# Altium schematic symbol library TGE_Lib.SchLib: 101 symbols
Pins are listed as number, name and electrical type; pins without a type are passive.

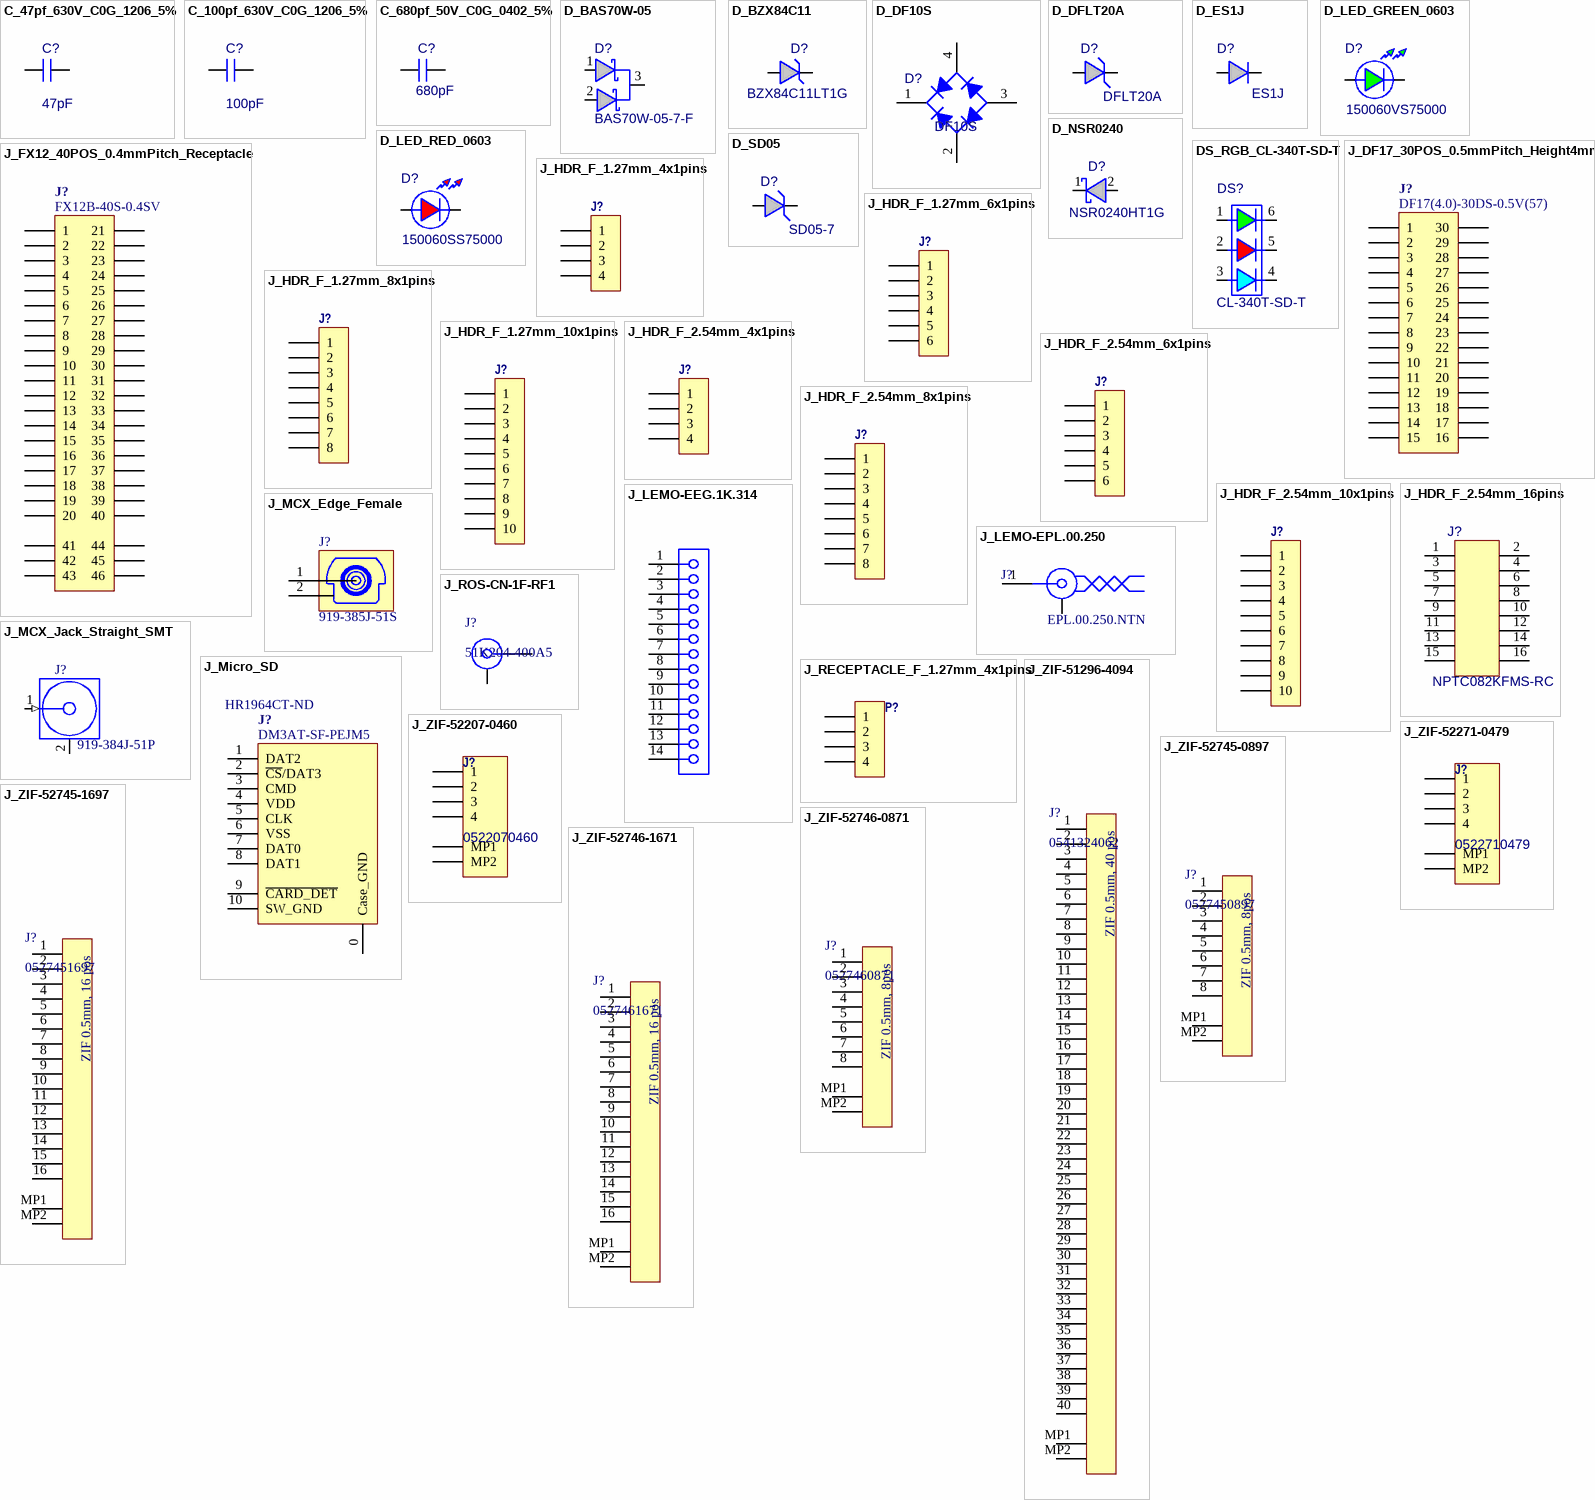
[diagram p0: symbols C_47pf_630V_C0G_1206_5% to J_ZIF-52746-1671]

## C_47pf_630V_C0G_1206_5%
designator C?, comment value 47pF  (hidden comment: CC1206JKNPOZBN470)
Ceramic Capacitor; Manufacturer: Yageo; ManufacturerPartNumber: CC1206JKNPOZBN470; Technology: SMT
signal-integrity model Cap Semi
simulation model CAP
footprint C_3216[1206] (Chip Resistor; Body 3.2 x 1.6 mm (LxW typ))
pins: 1, 2

## C_100pf_630V_C0G_1206_5%
designator C?, comment value 100pF  (hidden comment: C3216C0G2J101J060AA)
Ceramic Capacitor; Manufacturer: TDK Corporation; ManufacturerPartNumber: C3216C0G2J101J060AA; Technology: SMT; Supplier 1: Digi-Key; Supplier Part Number 1: 445-2336-1-ND
signal-integrity model Cap Semi
simulation model CAP
footprint C_3216[1206] (Chip Resistor; Body 3.2 x 1.6 mm (LxW typ))
pins: 1, 2

## C_680pf_50V_C0G_0402_5%
designator C?, comment value 680pF  (hidden comment: C1005NP01H681J050BA)
Ceramic Capacitor; Manufacturer: TDK; ManufacturerPartNumber: C1005NP01H681J050BA; Technology: SMT; Supplier 1: Digi-Key; Supplier Part Number 1: 445-13809-1-ND
signal-integrity model Cap Semi
simulation model CAP
footprint C_1005[0402] (Chip capacitor; Body 1.1 x 0.5 mm (LxW typ))
pins: 1, 2

## D_BAS70W-05
designator D?, comment BAS70W-05-7-F
Schottky Diodes Dual Common Cathode; Manufacturer: Diodes Inc; ManufacturerPartNumber: BAS70W-05-7-F; Value: BAS70W-05; Technology: SMT; Supplier 1: Digi-Key; Supplier Part Number 1: BAS70W-05FDICT-ND
footprint SOT323-3N
pins: 1 A, 2 A, 3 K

## D_BZX84C11
designator D?, comment BZX84C11LT1G
Zener Diode 11V; Manufacturer: On Semicondustor; ManufacturerPartNumber: BZX84C11LT1G; Value: BZX84C11; Technology: SMT; Supplier 1: Digi-Key; Supplier Part Number 1: BZX84C11LT1GOSCT-ND
footprint SOT23-3N(TO-236)
pins: 1 A, 3 K

## D_DF10S
designator D?, comment DF10S
Diodes Rectifier Bridge; Manufacturer: Diodes inc; ManufacturerPartNumber: DF10S; Technology: SMT; Supplier 1: Digi-Key; Supplier Part Number 1: DF10S-TDICT-ND
footprint U_SOIC520P851X650-4N (SOIC 4)
pins: 1 K, 2 C, 3 A, 4 C

## D_DFLT20A
designator D?, comment DFLT20A
ESD Suppressor Unidirectional 20V; Manufacturer: Diodes Inc; ManufacturerPartNumber: DFLT20A; Value: DFLT20A; Technology: SMT; Supplier 1: Digi-Key; Supplier Part Number 1: DFLT20A-7-ND
footprint D_POWERDI_123 (diode)
pins: 1 K, 2 A

## D_ES1J
designator D?, comment ES1J
1.0A 600V Ultra-Fast Rectifier, SMT SMA Package.; Manufacturer: On Semiconductor; ManufacturerPartNumber: ES1J; Technology: SMT; Supplier 1: Digi-Key; Supplier Part Number 1: ES1JFSCT-ND
footprint D_SMA_POL-N(DO-214)
pins: 1 K, 2 A

## D_LED_GREEN_0603
designator D?, comment 150060VS75000
LED Green Clear 40mcd 140deg; Manufacturer: Wurth Electronics Inc; Value: Green; ManufacturerPartNumber: 150060VS75000; Technology: SMT; Supplier 1: Digi-Key; Supplier Part Number 1: 732-4980-1-ND
footprint D_LED_0603_A (Chip LED, 2-Leads, Body 1.6x0.8mm, IPC Medium Density)
pins: 1 K, 2 A

## D_LED_RED_0603
designator D?, comment 150060SS75000
LED Red Clear 60mcd 140deg; Manufacturer: Wurth Electronics Inc; Value: Red; ManufacturerPartNumber: 150060SS75000; Technology: SMT
footprint D_LED_0603_A (Chip LED, 2-Leads, Body 1.6x0.8mm, IPC Medium Density)
pins: 1 K, 2 A

## D_NSR0240
designator D?, comment NSR0240HT1G
DIODE SCHOTTKY 250mA low Vf 40V SOD323; Manufacturer: ON Semiconductor; ManufacturerPartNumber: NSR0240HT1G; Value: NSR0240HT1G; Technology: SMT; Supplier 1: Digi-Key; Supplier Part Number 1: NSR0240HT1GOSCT-ND
footprint D_SOD323N(TBD)
pins: 1 K, 2 A

## D_SD05
designator D?, comment SD05-7
ESD Suppressor Unidirectional 5V; Manufacturer: Diodes Inc; Value: SD05; ManufacturerPartNumber: SD05-7; Technology: SMT; Supplier 1: Digi-Key; Supplier Part Number 1: SD05DICT-ND
footprint D_SOD323N(TBD)
pins: 1 K, 2 A

## DS_RGB_CL-340T-SD-T
designator DS?, comment CL-340T-SD-T
LED RGB 1.70mm L x 1.40mm W top firing; Manufacturer: Citizen; ManufacturerPartNumber: CL-340T-SD-T; Value: RGB; Technology: SMT; Supplier 1: Digi-Key; Supplier Part Number 1: 1642-1508-1-ND
footprint DS_LED_RGB_CL-340T-SD-T (LED RGB top firing CL-340T-SD-T)
pins: 1 A, 2 A, 3 A, 4 K, 5 K, 6 K

## J_DF17_30POS_0.5mmPitch_Height4mm
designator J?, comment DF17(4.0)-30DS-0.5V(57)
Board to Board connector 0.5mm pitch 30 pos; Manufacturer: Hirose; ManufacturerPartNumber: DF17(4.0)-30DS-0.5V(57); Supplier 1: Digi-Key; Supplier Part Number 1: H11115CT-ND; Technology: SMT
footprint J_DF17_30POS_4MM (Board to Board connector 30pos, pitch 0.5mm, height 4mm)
pins: 1, 2, 3, 4, 5, 6, 7, 8, 9, 10, 11, 12, 13, 14, 15, 16, 17, 18, 19, 20, 21, 22, 23, 24, 25, 26, 27, 28, 29, 30

## J_FX12_40POS_0.4mmPitch_Receptacle
designator J?, comment FX12B-40S-0.4SV
Board to Board connector receptacle 0.4mm pitch 40 pos; Manufacturer: Hirose; Supplier 1: Digi-Key; Supplier Part Number 1: H11408CT-ND; ManufacturerPartNumber: FX12B-40S-0.4SV; Technology: SMT
footprint J_FX12_40POS_REC (Board to Board connector 40pos, pitch 0.4mm, height 3mm)
pins: 1, 2, 3, 4, 5, 6, 7, 8, 9, 10, 11, 12, 13, 14, 15, 16, 17, 18, 19, 20, 21, 22, 23, 24, 25, 26, 27, 28, 29, 30, 31, 32, 33, 34, 35, 36, 37, 38, 39, 40, 41, 42, 43, 44, 45, 46

## J_HDR_F_1.27mm_4x1pins
designator J?, comment LPPB041NFFN-RC  (value not drawn)
Header TH Female 1.27mm pitch, 4pins single row; Manufacturer: Sullins Connector Solutions; ManufacturerPartNumber: LPPB041NFFN-RC; Technology: TH; Supplier 1: Digi-Key; Supplier Part Number 1: S9008E-04-ND
footprint J_HDR_TH_50mils_4pos (4pins Single row Header Female 50mils)
pins: 1, 2, 3, 4

## J_HDR_F_1.27mm_6x1pins
designator J?
Header TH Female 1.27mm pitch, 6pins single row; Technology: TH
footprint J_HDR_TH_50mils_6pos (6pins Single row Header Female 50mils)
pins: 1, 2, 3, 4, 5, 6

## J_HDR_F_1.27mm_8x1pins
designator J?
Header TH Female 1.27mm pitch, 8pins single row; Technology: TH
footprint J_HDR_TH_50mils_8pos (8pins Single row Header Female 50mils)
pins: 1, 2, 3, 4, 5, 6, 7, 8

## J_HDR_F_1.27mm_10x1pins
designator J?
Header TH Female 1.27mm pitch, 10pins single row; Technology: TH
footprint J_HDR_TH_50mils_10pos (10pins Single row Header Female 50mils)
pins: 1, 2, 3, 4, 5, 6, 7, 8, 9, 10

## J_HDR_F_2.54mm_4x1pins
designator J?, comment PPTC041LFBN-RC  (value not drawn)
Header TH Female 2.54mm pitch, 4pins single row; Manufacturer: Sullins Connector Solutions; ManufacturerPartNumber: PPTC041LFBN-RC; Technology: TH; Supplier 1: Digi-Key; Supplier Part Number 1: S7002-ND
footprint J_HDR_TH_100mils_4pos (4pins Single row Header Female 100mils)
pins: 1, 2, 3, 4

## J_HDR_F_2.54mm_6x1pins
designator J?, comment PPTC061LFBN-RC  (value not drawn)
Header TH Female 2.54mm pitch, 6pins single row; Manufacturer: Sullins Connector Solutions; ManufacturerPartNumber: PPTC061LFBN-RC; Technology: TH; Supplier 1: Digi-Key; Supplier Part Number 1: S7004-ND
footprint J_HDR_TH_100mils_6pos (6pins Single row Header Female 100mils)
pins: 1, 2, 3, 4, 5, 6

## J_HDR_F_2.54mm_8x1pins
designator J?, comment PPPC081LFBN-RC  (value not drawn)
Header TH Female 2.54mm pitch, 8pins single row; Manufacturer: Sullins Connector Solutions; ManufacturerPartNumber: PPPC081LFBN-RC; Technology: TH; Supplier 1: Digi-Key; Supplier Part Number 1: S7041-ND
footprint J_HDR_TH_100mils_8pos (8pins Single row Header Female 100mils)
pins: 1, 2, 3, 4, 5, 6, 7, 8

## J_HDR_F_2.54mm_10x1pins
designator J?, comment PPPC101LFBN-RC  (value not drawn)
Header TH Female 2.54mm pitch, 10pins single row; Manufacturer: Sullins Connector Solutions; ManufacturerPartNumber: PPPC101LFBN-RC; Technology: TH; Supplier 1: Digi-Key; Supplier Part Number 1: S7043-ND
footprint J_HDR_TH_100mils_10pos (10pins Single row Header Female 100mils)
pins: 1, 2, 3, 4, 5, 6, 7, 8, 9, 10

## J_HDR_F_2.54mm_16pins
designator J?, comment NPTC082KFMS-RC
CONN HEADER FEMALE 16POS .100"; Manufacturer: Sullins Connector Solutions; ManufacturerPartNumber: NPTC082KFMS-RC; Technology: SMT; Supplier 1: Digi-Key; Supplier Part Number 1: S5678-ND
footprint J_HDR_SMT_100mils_16pos (16pins Dual row Header Female 100mils)
pins: 1, 2, 3, 4, 5, 6, 7, 8, 9, 10, 11, 12, 13, 14, 15, 16

## J_LEMO-EEG.1K.314
designator J?, comment EEG.1K.314.CLV ???
CONN Lemo 14pins; Manufacturer: Lemo; ManufacturerPartNumber: EEG.1K.314.CLV ???; Supplier 1: Newark; Technology: TH; Supplier Part Number 1: 77Y7403
footprint J_EEG.1K.314.CLV (Socket, Female, Body 16mm dia. Height 24.3 mm, Through hole)
pins: 1, 2, 3, 4, 5, 6, 7, 8, 9, 10, 11, 12, 13, 14

## J_LEMO-EPL.00.250
designator J?, comment EPL.00.250.NTN
Elbow receptacle for printed circuit,  0 series, Coaxial Type with 1 Coax (50 Ohm); Manufacturer: LEMO; ManufacturerPartNumber: EPL.00.250.NTN; Supplier 1: Digi-Key; Supplier Part Number 1: 1124-1008-ND; Technology: TH
footprint J_EPL.00.250.NTN (Socket, Female, Through hole)
pins: 1, S1, S2, S3, S4

## J_MCX_Edge_Female
designator J?, comment 919-385J-51S
CONN MCX; Manufacturer: Amphenol; ManufacturerPartNumber: 919-385J-51S; Supplier 1: Digi-Key; Supplier Part Number 1: ARF2523-ND
footprint J_MCX_EDGE_FEMALE (MCX Connector Edge Mount Receptacle (female))
pins: 1, 2

## J_MCX_Jack_Straight_SMT
designator J?, comment 919-384J-51P
MCX Straight PCB Jack, Surface Mount, 50 Ohm; Manufacturer: Amphenol RF; ManufacturerPartNumber: 919-384J-51P; Supplier 1: Digi-Key; Supplier Part Number 1: ARF2522-ND; Technology: SMT
footprint J_MCX_JACK_STRAIGHT_SMT (MCX Jack Connector straight SMT)
pins: 1 Signal (in) "Signal Pin", 2 GND (power)

## J_Micro_SD
designator J?, comment DM3AT-SF-PEJM5  Supplier Part Number 1: HR1964CT-ND
Micro SD card socket; Manufacturer: Hirose; ManufacturerPartNumber: DM3AT-SF-PEJM5; Supplier 1: Digi-Key; Technology: SMT
footprint J_MICRO_SD (Micro SD card socket)
pins: 0 Case_GND, 1 DAT2, 2 ~{CS}/DAT3, 3 CMD, 4 VDD, 5 CLK, 6 VSS, 7 DAT0, 8 DAT1, 9 ~{CARD_DET}, 10 SW_GND

## J_RECEPTACLE_F_1.27mm_4x1pins
designator P?, comment LPPB041NFFN-RC  (value not drawn)
Receptacle TH Female 1.27mm pitch, 4pins single row; Manufacturer: Sullins Connector Solutions; ManufacturerPartNumber: LPPB041NFFN-RC; Technology: TH; Supplier 1: Digi-Key; Supplier Part Number 1: S9008E-04-ND
footprint J_HDR_TH_50mils_4pos (4pins Single row Header Female 50mils)
pins: 1, 2, 3, 4

## J_ROS-CN-1F-RF1
designator J?, comment 51K204-400A5
CONN BNC; Manufacturer: Rosenberger; ManufacturerPartNumber: 51K204-400A5; Technology: TH
footprint J_ROS-51K204-400A5_V (BNC 50R Right Angle Jack, 12.5x32.6x14.5mm, Rosenberger Recommended)
pins: 1, MH

## J_ZIF-51296-4094
designator J?, comment 0541324062  value ZIF 0.5mm, 40 pos
FFC/FPC Connector, Zif 0.5mm pitch, 40 pos, bottom contact, flip lock; Manufacturer: Molex; ManufacturerPartNumber: 0541324062; Supplier 1: Digi-Key; Supplier Part Number 1: WM3436CT-ND; Technology: SMT
footprint J_ZIF-54132-4062 (FPC Connector, 40-Leads, Right Angle, Pitch 0.5 mm, Mated Height 2.0 mm, SMT)
pins: 1, 2, 3, 4, 5, 6, 7, 8, 9, 10, 11, 12, 13, 14, 15, 16, 17, 18, 19, 20, 21, 22, 23, 24, 25, 26, 27, 28, 29, 30, 31, 32, 33, 34, 35, 36, 37, 38, 39, 40, MP1, MP2

## J_ZIF-52207-0460
designator J?, comment 0522070460
FFC/FPC Connector, Zif 1mm pitch, 4 pos, top contact, slide lock; Manufacturer: Molex; ManufacturerPartNumber: 0522070460; Technology: SMT; Supplier 1: Digi-Key; Supplier Part Number 1: WM3749CT-ND
footprint J_ZIF-52207-0460 (FPC Connector, 4-Leads, Right Angle, Pitch 1.0 mm, Mated Height 2.7 mm, SMT)
pins: 1, 2, 3, 4, MP1, MP2

## J_ZIF-52271-0479
designator J?, comment 0522710479
FFC/FPC Connector, Zif 1mm pitch, 4 pos, bottom contact, slide lock; Manufacturer: Molex; ManufacturerPartNumber: 0522710479; Technology: SMT; Supplier 1: Digi-Key; Supplier Part Number 1: WM7954CT-ND
footprint J_ZIF-52271-0479 (FPC Connector, 4-Leads, Right Angle, Pitch 1.0 mm, Mated Height 3.0 mm, SMT)
pins: 1, 2, 3, 4, MP1, MP2

## J_ZIF-52745-0897
designator J?, comment 0527450897  value ZIF 0.5mm, 8pos
FFC/FPC Connector, Zif 0.5mm pitch, 8 pos, top contact, slide lock; Manufacturer: Molex; ManufacturerPartNumber: 0527450897; Supplier 1: Digi-Key; Supplier Part Number 1: WM3772CT-ND; Technology: SMT
footprint J_ZIF-52745-0897 (FPC Connector, 8-Leads, Right Angle, Pitch 0.5 mm, Mated Height 2.0 mm, SMT)
pins: 1, 2, 3, 4, 5, 6, 7, 8, MP1, MP2

## J_ZIF-52745-1697
designator J?, comment 0527451697  value ZIF 0.5mm, 16 pos
FFC/FPC Connector, Zif 0.5mm pitch, 16 pos, top contact, slide lock; Manufacturer: Molex; ManufacturerPartNumber: 0527451697; Supplier 1: Digi-Key; Supplier Part Number 1: WM8937CT-ND; Technology: SMT
footprint J_ZIF-52745-1697 (FPC Connector, 16-Leads, Right Angle, Pitch 0.5 mm, Mated Height 2.0 mm, SMT)
pins: 1, 2, 3, 4, 5, 6, 7, 8, 9, 10, 11, 12, 13, 14, 15, 16, MP1, MP2

## J_ZIF-52746-0871
designator J?, comment 0527460871  value ZIF 0.5mm, 8pos
FFC/FPC Connector, Zif 0.5mm pitch, 8 pos, bottom contact, slide lock; Manufacturer: Molex; ManufacturerPartNumber: 0527460871; Supplier 1: Digi-Key; Supplier Part Number 1: WM6769CT-ND; Technology: SMT
footprint J_ZIF-52746-0871 (FPC Connector, 8-Leads, Right Angle, Pitch 0.5 mm, Mated Height 2.0 mm, SMT)
pins: 1, 2, 3, 4, 5, 6, 7, 8, MP1, MP2

## J_ZIF-52746-1671
designator J?, comment 0527461671  value ZIF 0.5mm, 16 pos
FFC/FPC Connector, Zif 0.5mm pitch, 16 pos, bottom contact, slide lock; Manufacturer: Molex; ManufacturerPartNumber: 0527461671; Supplier 1: Digi-Key; Supplier Part Number 1: WM6772CT-ND; Technology: SMT
footprint J_ZIF-52746-1671 (FPC Connector, 16-Leads, Right Angle, Pitch 0.5 mm, Mated Height 2.0 mm, SMT)
pins: 1, 2, 3, 4, 5, 6, 7, 8, 9, 10, 11, 12, 13, 14, 15, 16, MP1, MP2

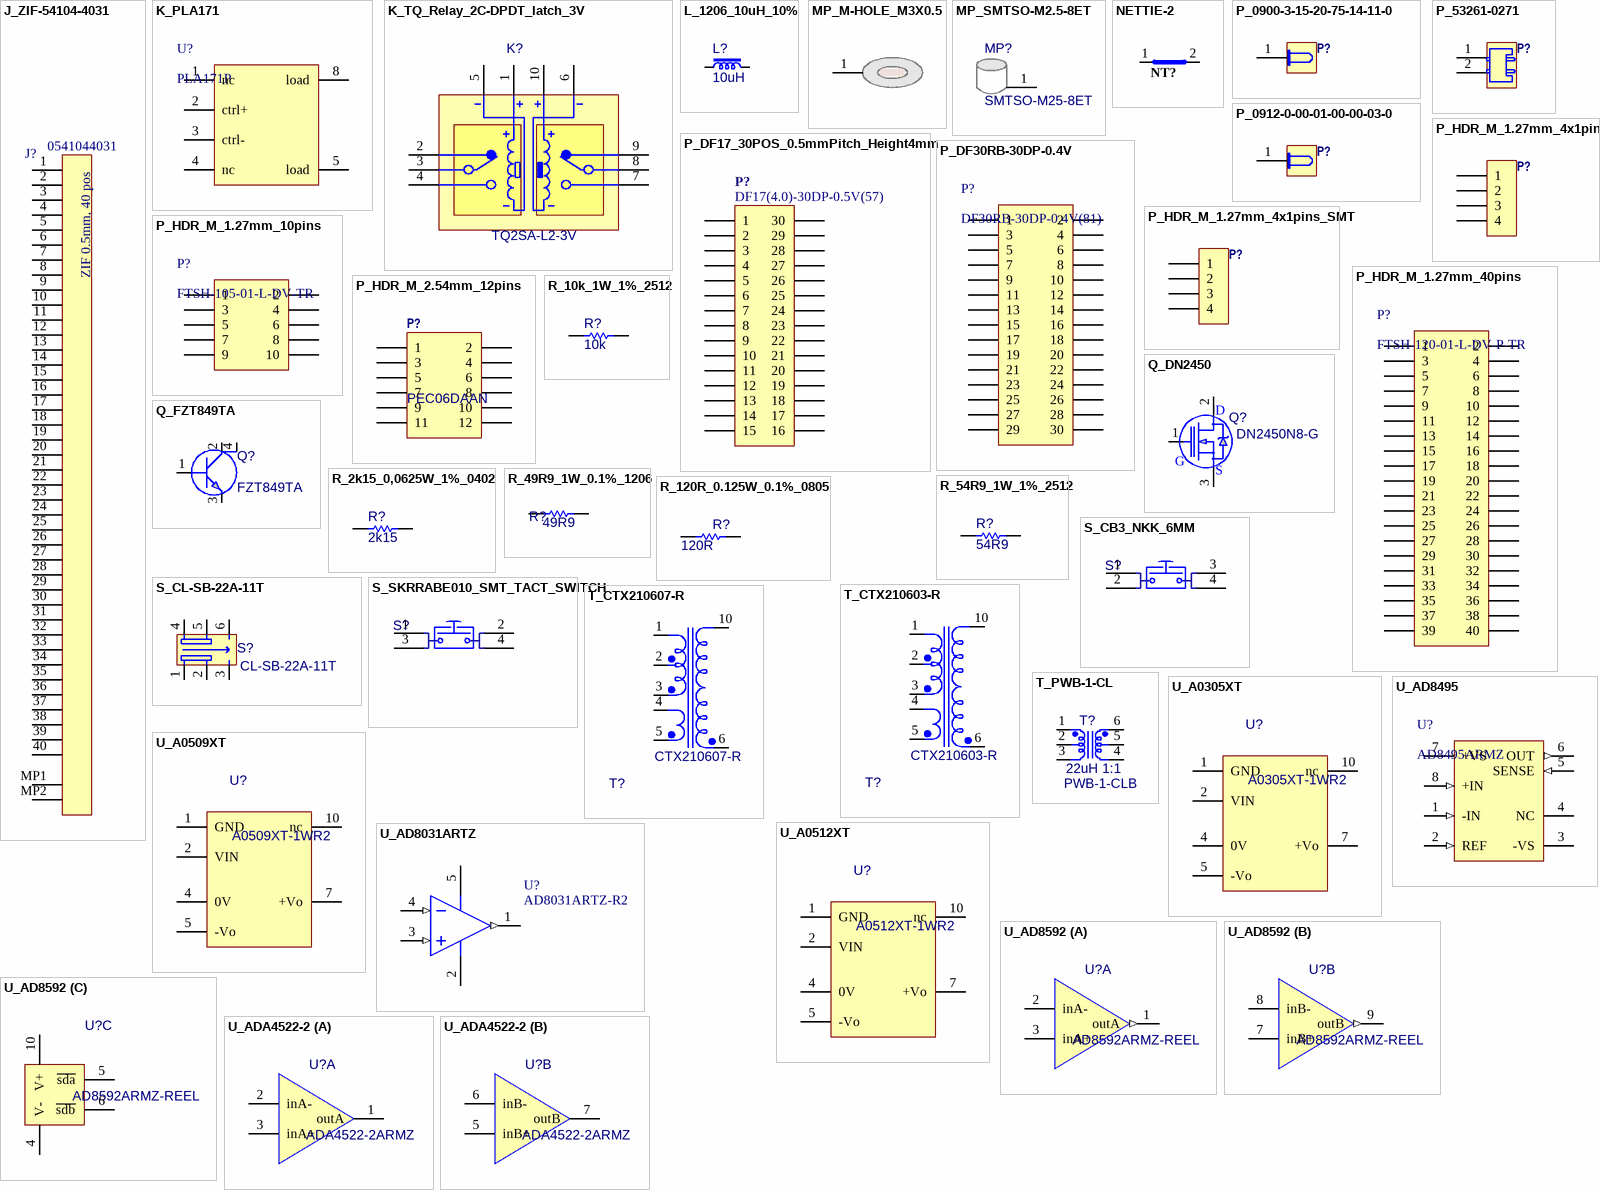
[diagram p1: symbols J_ZIF-54104-4031 to U_ADA4522-2]

## J_ZIF-54104-4031
designator J?, comment 0541044031  value ZIF 0.5mm, 40 pos
FFC/FPC Connector, Zif 0.5mm pitch, 40 pos, top contact, slide lock; Manufacturer: Molex; ManufacturerPartNumber: 0541044031; Supplier 1: Digi-Key; Supplier Part Number 1: WM3431CT-ND; Technology: SMT
footprint J_ZIF-54104-4031 (FPC Connector, 40-Leads, Right Angle, Pitch 0.5 mm, Mated Height 2.0 mm, SMT)
pins: 1, 2, 3, 4, 5, 6, 7, 8, 9, 10, 11, 12, 13, 14, 15, 16, 17, 18, 19, 20, 21, 22, 23, 24, 25, 26, 27, 28, 29, 30, 31, 32, 33, 34, 35, 36, 37, 38, 39, 40, MP1, MP2

## K_PLA171
designator U?, comment PLA171P
Relay optoMOS single pole normally open; Manufacturer: IXYS; ManufacturerPartNumber: PLA171P; Supplier 1: Digi-Key; Supplier Part Number 1: CLA372-ND; Technology: SMT
footprint K_PLA171_8PIN-BODY
pins: 1 nc, 2 ctrl+, 3 ctrl-, 4 nc, 5 load, 8 load

## K_TQ_Relay_2C-DPDT_latch_3V
designator K?, comment TQ2SA-L2-3V
SMT RELAY 2 Form-C, LATCH DUAL COIL 3V; Manufacturer: Panasonic; Value: TQ2SA-L2-3V; Technology: SMT; Supplier 1: Digi-Key; Supplier Part Number 1: 255-2267-5-ND; ManufacturerPartNumber: TQ2SA-L2-3V
footprint K_Small_Relay_2c_type (SMT Small Relay)
footprint K_Small_Relay_2c_type - reverse trought PCB (SMT Small Relay)
footprint K_Small_Relay_2c_type_ARA (SMT Small Relay w/ Shield, ARA series Panasonic)
pins: 1, 2, 3, 4, 5, 6, 7, 8, 9, 10

## L_1206_10uH_10%
designator L?, comment value 10uH  (hidden comment: AIML-1206-100K-T)
Wirewound ferrite chip Inductor 1206; Manufacturer: Abracon; ManufacturerPartNumber: AIML-1206-100K-T; Technology: SMT; Supplier 1: Digi-Key; Supplier Part Number 1: 535-11657-1-ND
footprint L_1206N
pins: 1, 2

## MP_M-HOLE_M3X0.5
designator MP?  (no BOM)
Mounting Hole M3X0.5
footprint MP_M-Hole_M3x0.5mm_NORMAL-FIT (Monting Hole M3x0.5mm Normal Fit)
footprint MP_M-Hole_M3x0.5mm_LOOSE-FIT (Monting Hole M3x0.5mm Loose Fit)
footprint MP_M-Hole_M3x0.5mm_TIGHT-FIT (Monting Hole M3x0.5mm TIGHT Fit)
pins: 1

## MP_SMTSO-M2.5-8ET
designator MP?, comment SMTSO-M25-8ET
PEMNUT Standoff M2.5, 8mm SMT; Manufacturer: PennEngineering; ManufacturerPartNumber: SMTSO-M25-8ET; Technology: SMT
footprint MP_Standoff_M2.5x8mm_SMT (Spacer SMT 8mm M2.5)
pins: 1 (power)

## NETTIE-2
designator NT?  (net tie, no BOM)
footprint NETTIE-SMT2-W0.2L0.6(MM) (Net-Tie, Surface Mount, 0.6 mm x 0.2 mm, 2 Pads (0.4 mm x 0.2 mm))
footprint NETTIE-SMT2-W0.8L2.0(MM) (Net-Tie, Surface Mount, 2.0mm x 0.8mm, 2 Pads(1.2mm x 0.8mm))
footprint NETTIE-SMT2-W0.8L3.3(MM) (Net-Tie, Surface Mount, 3.3mm x 0.8mm, 2 Pads (2.0 mm x 0.8 mm))
pins: 1 Net1, 2 Net2

## P_0900-3-15-20-75-14-11-0
designator P?, comment 0900-3-15-20-75-14-11-0  (value not drawn)
SMT PCB spring pin 5.51mm; Manufacturer: Mill-Max; ManufacturerPartNumber: 0900-3-15-20-75-14-11-0; Technology: SMT; Supplier 1: Digi-Key; Supplier Part Number 1: ED9003-ND
footprint P_0900-3_SMT_SPRING_PIN (Spring Loaded pin, serie 0900-3)
pins: 1

## P_0912-0-00-01-00-00-03-0
designator P?, comment 0912-0-00-01-00-00-03-0  (value not drawn)
press-Fit PCB pin; Manufacturer: Mill-Max; ManufacturerPartNumber: 0912-0-00-01-00-00-03-0; Technology: SMT; Supplier 1: Digi-Key; Supplier Part Number 1: 0912-000010000030-ND
footprint P_0912_PRESS-FIT_PCB_PIN (Press-fit PCB pin serie 0912: 0912-0-00-01-00-00-03-0)
pins: 1

## P_53261-0271
designator P?, comment 0532610271  (value not drawn)
CONN HEADER 2POS 1.25MM R/A SMD; Manufacturer: Molex; ManufacturerPartNumber: 0532610271; Technology: SMT; Supplier 1: Digi-Key; Supplier Part Number 1: WM7620CT-ND
footprint P_53261-0271 (Molex - CONN HEADER 2POS 1.25MM R/A SMD)
pins: 1, 2

## P_DF17_30POS_0.5mmPitch_Height4mm
designator P?, comment DF17(4.0)-30DP-0.5V(57)
Board to Board connector 0.5mm pitch 30 pos; Manufacturer: Hirose; ManufacturerPartNumber: DF17(4.0)-30DP-0.5V(57); Supplier 1: Digi-Key; Supplier Part Number 1: H11143CT-ND; Technology: SMT
footprint P_DF17_30POS_4MM (Board to Board connector 30pos, pitch 0.5mm, height 4mm)
pins: 1, 2, 3, 4, 5, 6, 7, 8, 9, 10, 11, 12, 13, 14, 15, 16, 17, 18, 19, 20, 21, 22, 23, 24, 25, 26, 27, 28, 29, 30

## P_DF30RB-30DP-0.4V
designator P?, comment DF30RB-30DP-0.4V(81)
CONN HEADER 30POS 0.4MM SMD GOLD; Manufacturer: Hirose; ManufacturerPartNumber: DF30RB-30DP-0.4V(81); Technology: SMT; Supplier 1: Avnet; Supplier Part Number 1: DF30FC-30DS-0.4V(82)
footprint P_DF30_30POS (Board to Board connector 30pos, pitch 0.4mm, height 0.8mm)
pins: 1, 2, 3, 4, 5, 6, 7, 8, 9, 10, 11, 12, 13, 14, 15, 16, 17, 18, 19, 20, 21, 22, 23, 24, 25, 26, 27, 28, 29, 30

## P_HDR_M_1.27mm_4x1pins
designator P?, comment GRPB041VWVN-RC  (value not drawn)
Header TH Male 1.27mm pitch, 4pins single row; Manufacturer: Sullins Connector Solutions; ManufacturerPartNumber: GRPB041VWVN-RC; Technology: TH; Supplier 1: Digi-Key; Supplier Part Number 1: S9014E-04-ND
footprint P_HDR_TH_50mils_4pos (4pins Single row Header Male 50mils)
pins: 1, 2, 3, 4

## P_HDR_M_1.27mm_4x1pins_SMT
designator P?, comment GRPB041VWTC-RC  (value not drawn)
Header SMT Male 1.27mm pitch, 4pins single row; Manufacturer: Sullins Connector Solutions; ManufacturerPartNumber: GRPB041VWTC-RC; Technology: SMT; Supplier 1: Digi-Key; Supplier Part Number 1: S9011E-04-ND
footprint P_HDR_SMT_50mils_4pos (4pins Single row Header Male 50mils SMT)
pins: 1, 2, 3, 4

## P_HDR_M_1.27mm_10pins
designator P?, comment FTSH-105-01-L-DV-TR
Header SMT Male 1.27mm pitch, 10pins; Manufacturer: Samtec; ManufacturerPartNumber: FTSH-105-01-L-DV-TR; Technology: SMT; Supplier 1: Digi-Key; Supplier Part Number 1: FTSH-105-01-L-DV-TR-ND
footprint P_HDR_SMT_50mils_10pos (10pins Dual row Header Male 50mils)
pins: 1, 2, 3, 4, 5, 6, 7, 8, 9, 10

## P_HDR_M_1.27mm_40pins
designator P?, comment FTSH-120-01-L-DV-P-TR
Header SMT Male 1.27mm pitch, 40pins; Manufacturer: Samtec; ManufacturerPartNumber: FTSH-120-01-L-DV-P-TR; Technology: SMT; Supplier 1: Digi-Key; Supplier Part Number 1: FTSH-120-01-L-DV-P-TR-ND
footprint P_HDR_SMT_50mils_40pos (40pins Dual row Header Male 50mils)
pins: 1, 2, 3, 4, 5, 6, 7, 8, 9, 10, 11, 12, 13, 14, 15, 16, 17, 18, 19, 20, 21, 22, 23, 24, 25, 26, 27, 28, 29, 30, 31, 32, 33, 34, 35, 36, 37, 38, 39, 40

## P_HDR_M_2.54mm_12pins
designator P?, comment PEC06DAAN
Header TH Male 2.54mm pitch, 12pins Dual row straight; Manufacturer: Sullins; ManufacturerPartNumber: PEC06DAAN; Technology: SMT; Supplier 1: Digi-Key; Supplier Part Number 1: S2012E-06-ND
footprint P_HDR_TH_100mils_12pos_DUALROW (12pins Dual row Header 100mils)
pins: 1, 2, 3, 4, 5, 6, 7, 8, 9, 10, 11, 12

## Q_DN2450
designator Q?, comment DN2450N8-G
FET N-Channel Depletion Mode 500V; Manufacturer: Microchip; Value: DN2450; ManufacturerPartNumber: DN2450N8-G; Technology: SMT; Supplier 1: Digi-Key; Supplier Part Number 1: DN2450K4-GCT-ND
footprint SOT89N (SOT89, 3-Leads, Body 4.5x2.4 mm, Pitch 1.5mm, Lead Span 4.1mm, IPC Medium Density)
pins: 1 G, 2 D, 3 S

## Q_FZT849TA
designator Q?, comment FZT849TA
NPN SOT-223 80V 1A Transistor; Manufacturer: Diodes Inc; ManufacturerPartNumber: FZT849TA; Value: FZT849TA; Technology: SMT; Supplier 1: Digi-Key; Supplier Part Number 1: FZT849CT-ND
footprint SOT223-4N(TO-261AA)
pins: 1 B, 2 C, 3 E, 4 C

## R_2k15_0,0625W_1%_0402
designator R?, comment value 2k15  (hidden comment: RC0402FR-072K15L)
Chip Resistor; Manufacturer: Yageo; ManufacturerPartNumber: RC0402FR-072K15L; Technology: SMT
simulation model RES (Semiconductor Resistor)
signal-integrity model Res Semi
footprint R_1005[0402]
pins: 1, 2

## R_10k_1W_1%_2512
designator R?, comment value 10k  (hidden comment: CRGP2512F10K)
Chip Resistor; Manufacturer: TE Connectivity; ManufacturerPartNumber: CRGP2512F10K; Technology: SMT; Supplier 1: Digi-Key; Supplier Part Number 1: A130733CT-ND
simulation model RES (Semiconductor Resistor)
signal-integrity model Res Semi
footprint R_6332[2512] (Chip Resistor, Body 6.3x3.2mm, IPC Medium Density)
pins: 1, 2

## R_49R9_1W_0.1%_1206
designator R?, comment value 49R9  (hidden comment: PHP01206E49R9BST5)
Chip Resistor; Manufacturer: Vishay-Dale; ManufacturerPartNumber: PHP01206E49R9BST5; Technology: SMT; Supplier 1: Digi-Key; Supplier Part Number 1: PHP49.9ACT-ND
simulation model RES (Semiconductor Resistor)
signal-integrity model Res Semi
footprint R_3216[1206] (Chip Resistor, Body 3.2x1.6mm, IPC Medium Density)
pins: 1, 2

## R_54R9_1W_1%_2512
designator R?, comment value 54R9  (hidden comment: CRCW251254R9FKEG)
Chip Resistor; Manufacturer: Vishay Dale; ManufacturerPartNumber: CRCW251254R9FKEG; Technology: SMT; Supplier 1: Digi-Key; Supplier Part Number 1: 541-54.9AFCT-ND
simulation model RES (Semiconductor Resistor)
signal-integrity model Res Semi
footprint R_6332[2512] (Chip Resistor, Body 6.3x3.2mm, IPC Medium Density)
pins: 1, 2

## R_120R_0.125W_0.1%_0805
designator R?, comment value 120R  (hidden comment: ERA-6AEB121V)
Chip Resistor; Manufacturer: Panasonic; ManufacturerPartNumber: ERA-6AEB121V; Technology: SMT; Supplier 1: Digi-Key; Supplier Part Number 1: P100DACT-ND
simulation model RES (Semiconductor Resistor)
signal-integrity model Res Semi
footprint R_2012[0805] (Chip Resistor, Body 2.0x1.3mm, IPC Medium Density)
pins: 1, 2

## S_CB3_NKK_6MM
designator S?, comment CB315FP-R  (value not drawn)
push button sealed 6mm; Manufacturer: NKK; Value: SPST; ManufacturerPartNumber: CB315FP-R; Technology: SMT; Supplier 1: Digi-Key; Supplier Part Number 1: 360-2778-ND
footprint S_CB3 (Tactile switch smt 6mm)
pins: 1, 2, 3, 4

## S_CL-SB-22A-11T
designator S?, comment CL-SB-22A-11T
Switch slide DPDT right angle; Manufacturer: Copal Electronics; ManufacturerPartNumber: CL-SB-22A-11T; Technology: SMT; Supplier 1: Digi-Key; Supplier Part Number 1: 563-1340-1-ND
footprint S_SCL-SB-22A (Toggle switch DPDT)
pins: 1, 2, 3, 4, 5, 6

## S_SKRRABE010_SMT_TACT_SWITCH
designator S?, comment SKRRABE010  (value not drawn)
push button sealed 6mm; Manufacturer: ALPS; Value: SPST; ManufacturerPartNumber: SKRRABE010; Technology: SMT; Supplier 1: Mouser; Supplier Part Number 1: 688-SKRRAB
footprint S_SKRRA (Tactile switch smt 7.5x7x0.6mm)
pins: 1, 2, 3, 4

## T_CTX210603-R
designator T?, comment CTX210603-R
Transformer 6W; Manufacturer: Cooper Bussmann; ManufacturerPartNumber: CTX210603-R; Technology: SMT; Supplier 1: Newark; Supplier Part Number 1: 76T4686
footprint T_CTX_6W (TRANSFORMER 6W VERSION, LAYOUT C)
pins: 1 P1, 2 Pct, 3 P2, 4 P3, 5 P4, 6 S2-1, 10 S1-1

## T_CTX210607-R
designator T?, comment CTX210607-R
Transformer 6W; Manufacturer: Cooper Bussmann; ManufacturerPartNumber: CTX210607-R; Technology: SMT; Supplier 1: Newark; Supplier Part Number 1: 76T4687
footprint T_CTX_6W (TRANSFORMER 6W VERSION, LAYOUT C)
pins: 1 P1, 2 Pct, 3 P2, 4 P3, 5 P4, 6 S2-1, 10 S1-1

## T_PWB-1-CL
designator T?, comment PWB-1-CLB  value 22uH 1:1
SMT Wideband 1:1 RF Transformer; Manufacturer: Coilcraft; ManufacturerPartNumber: PWB-1-CLB; Technology: SMT; Supplier 1: Mouser; Supplier Part Number 1: 994-PWB-1-CLB
footprint T_PWB (Signal Transformer Coilcraft PWB series)
pins: 1, 2 hidden, 2, 3, 4, 5, 6

## U_A0305XT
designator U?, comment A0305XT-1WR2
DC-DC converter unregulated, 1W, 3.3Vin, +/-5Vout; Manufacturer: Mornsun; ManufacturerPartNumber: A0305XT-1WR2; Technology: SMT
footprint U_A_XT-1WR2
pins: 1 GND (power), 2 VIN (power), 4 0V (power), 5 -Vo (power), 6 nc hidden "no connect", 7 +Vo (power), 10 nc

## U_A0509XT
designator U?, comment A0509XT-1WR2
DC-DC converter unregulated, 1W, 5Vin, +/-9Vout; Manufacturer: Mornsun; ManufacturerPartNumber: A0509XT-1WR2; Technology: SMT
footprint U_A_XT-1WR2
pins: 1 GND (power), 2 VIN (power), 4 0V (power), 5 -Vo (power), 6 nc hidden "no connect", 7 +Vo (power), 10 nc

## U_A0512XT
designator U?, comment A0512XT-1WR2
DC-DC converter unregulated, 1W, 5Vin, +/-12Vout; Manufacturer: Mornsun; ManufacturerPartNumber: A0512XT-1WR2; Technology: SMT
footprint U_A_XT-1WR2
pins: 1 GND (power), 2 VIN (power), 4 0V (power), 5 -Vo (power), 6 nc hidden "no connect", 7 +Vo (power), 10 nc

## U_AD8031ARTZ
designator U?, comment AD8031ARTZ-R2
Single Channel RRIO Operational Amplifier, 80 MHz BW, 35 V/us SR, Industrial, 5-pin SOT23 (RJ-5); Manufacturer: Analog Devices; ManufacturerPartNumber: AD8031ARTZ-R2; Supplier 1: Digi-Key; Supplier Part Number 1: AD8031ARTZ-R2CT-ND; Technology: SMT
footprint SOT23-5N(MO-178)
pins: 1 VOUT (out), 2 -VS (power), 3 +IN (in), 4 -IN (in), 5 +VS (power)

## U_AD8495
designator U?, comment AD8495ARMZ
IC THERMOCOUPLE A W/COMP 8MSO; Manufacturer: Analog Devices; ManufacturerPartNumber: AD8495ARMZ; Supplier 1: Digi-Key; Supplier Part Number 1: AD8495ARMZ-ND; Technology: SMT
footprint U_MSOP65P300X500-8N (Shrink Small Outline, MSOP; 8 Leads; Body Width 3 mm; Pitch 0.65 mm)
pins: 1 -IN (in) "Negative Input.", 2 REF (in) "Reference. This pin must be driven by low impedance.", 3 -VS (power) "Negative Supply.", 4 NC "No Connect.", 5 SENSE (in) "Sense Pin. In measurement mode, connect to output; in setpoint mode, connect to setpoint voltage.", 6 OUT (out) "Output.", 7 +VS (power) "Positive Supply.", 8 +IN (in) "Positive Input."

## U_AD8592
designator U?, comment AD8592ARMZ-REEL
General Purpose Amplifier 2 Circuit Rail-to-Rail 10-MSOP; Manufacturer: Analog Device; Value: AD8592; ManufacturerPartNumber: AD8592ARMZ-REEL; Technology: SMT
footprint U_MSOP50P300X500-10(RM-10)_WO-TP (Shrink Small Outline; 10 Leads; Body Width 3 mm; Pitch 0.5 mm)
part A pins: 1 outA (out), 2 inA-, 3 inA+
part B pins: 7 inB+, 8 inB-, 9 outB (out)
part C pins: 4 V- (power), 5 ~{sda}, 6 ~{sdb}, 10 V+ (power)

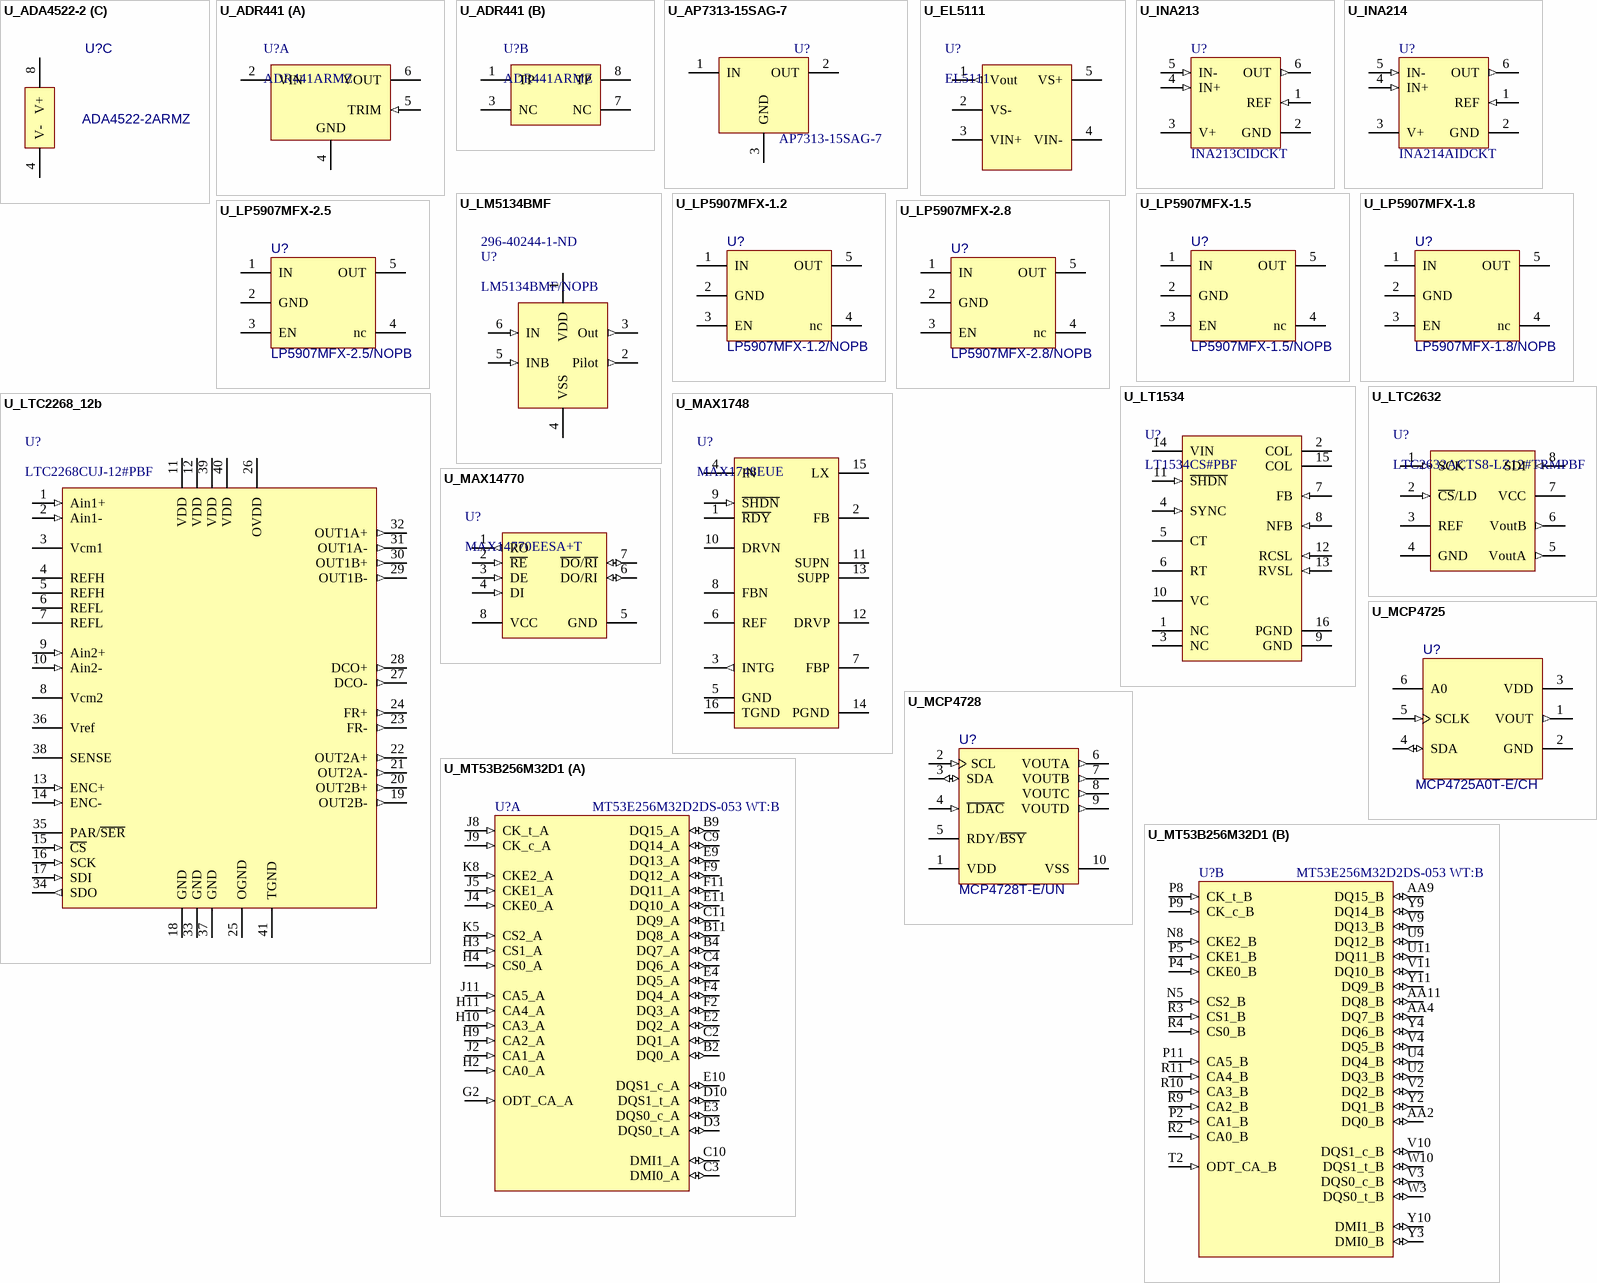
[diagram p2: symbols U_ADA4522-2 to U_MT53B256M32D1]

## U_ADA4522-2
designator U?, comment ADA4522-2ARMZ
55 V, EMI Enhanced, Zero Drift, Ultralow Noise, Rail-to-Rail Output Operational Amplifiers; Manufacturer: Analog Device; ManufacturerPartNumber: ADA4522-2ARMZ; Value: ADA4522-2; Technology: SMT; Supplier 1: Digi-Key; Supplier Part Number 1: ADA4522-2ARMZ-ND
footprint U_MSOP65P300X500-8N (Shrink Small Outline, MSOP; 8 Leads; Body Width 3 mm; Pitch 0.65 mm)
part A pins: 1 outA, 2 inA-, 3 inA+
part B pins: 5 inB+, 6 inB-, 7 outB
part C pins: 4 V- (power), 8 V+ (power)

## U_ADR441
designator U?, comment ADR441ARMZ
Voltage Reference 2.5V; Manufacturer: Analog Devices; ManufacturerPartNumber: ADR441ARMZ; Supplier 1: Digi-Key; Supplier Part Number 1: ADR441ARMZ-REEL7CT-ND; Technology: SMT
footprint U_MSOP65P300X500-8N (Shrink Small Outline, MSOP; 8 Leads; Body Width 3 mm; Pitch 0.65 mm)
part A pins: 2 VIN (power), 4 GND (power), 5 TRIM (in), 6 VOUT (power)
part B pins: 1 TP, 3 NC, 7 NC, 8 TP

## U_AP7313-15SAG-7
designator U?, comment AP7313-15SAG-7
LDO 1.5V 150mA; Manufacturer: Diodes Inc; ManufacturerPartNumber: AP7313-15SAG-7; Supplier 1: Digi-Key; Supplier Part Number 1: AP7313-15SAG-7DICT-ND; Technology: SMT
footprint SOT23-3L(TO-236)
pins: 1 IN (power), 2 OUT (power), 3 GND (power)

## U_EL5111
designator U?, comment EL5111
60MHz Rail-to-Rail Input-Output Op Amps; Manufacturer: Intersil; ManufacturerPartNumber: EL5111; Technology: SMT; Supplier 1: Digi-Key; Supplier Part Number 1: EL5111IWTZ-T7ACT-ND
footprint SOT23-5N(MO-178)
pins: 1 Vout (out), 2 VS- (power), 3 VIN+, 4 VIN-, 5 VS+ (power)

## U_INA213
designator U?, comment INA213CIDCKT
Voltage Output, High / Low-Side Measurement, Current Shunt Monitor, G=50, 2.7 to 26 V, -40 to 125 degC, 6-Pin SC70; Manufacturer: Texas Instruments; ManufacturerPartNumber: INA213CIDCKT; Supplier 1: Digi-Key; Supplier Part Number 1: 296-48552-1-ND; Technology: SMT
footprint SOT363-6N(MO-203)SC-70-6L
pins: 1 REF (in), 2 GND (power), 3 V+ (power), 4 IN+ (in), 5 IN- (in), 6 OUT (out)

## U_INA214
designator U?, comment INA214AIDCKT
Voltage Output, High / Low-Side Measurement, Current Shunt Monitor, G=100, 2.7 to 26 V, -40 to 125 degC, 6-Pin SC70; Manufacturer: Texas Instruments; ManufacturerPartNumber: INA214AIDCKT; Supplier 1: Digi-Key; Supplier Part Number 1: 296-23422-1-ND; Technology: SMT
footprint SOT363-6N(MO-203)SC-70-6L
pins: 1 REF (in), 2 GND (power), 3 V+ (power), 4 IN+ (in), 5 IN- (in), 6 OUT (out)

## U_LM5134BMF
designator U?, comment LM5134BMF/NOPB  Supplier Part Number 1: 296-40244-1-ND
Single 7.6-A Peak Current Low-Side Gate Driver With a PILOT Output; Manufacturer: TI; ManufacturerPartNumber: LM5134BMF/NOPB; Supplier 1: Digi-Key; Technology: SMT
footprint SOT23-6N(MO-178)
pins: 1 VDD (power), 2 Pilot (out), 3 Out (out), 4 VSS (power), 5 INB (in), 6 IN (in)

## U_LP5907MFX-1.2
designator U?, comment LP5907MFX-1.2/NOPB
IC REG LINEAR 1.2V 250MA SOT23; Manufacturer: Texas Instruments; ManufacturerPartNumber: LP5907MFX-1.2/NOPB; Value: LP5907MFX-1.2/NOPB; Technology: SMT; Supplier 1: Digi-Key; Supplier Part Number 1: 296-39062-1-ND
footprint SOT23-5N(MO-178)
pins: 1 IN (power), 2 GND (power), 3 EN, 4 nc, 5 OUT (power)

## U_LP5907MFX-1.5
designator U?, comment LP5907MFX-1.5/NOPB
IC REG LINEAR 1.5V 250MA SOT23; Manufacturer: Texas Instruments; ManufacturerPartNumber: LP5907MFX-1.5/NOPB; Value: LP5907MFX-1.5/NOPB; Technology: SMT; Supplier 1: Digi-Key; Supplier Part Number 1: 296-40355-1-ND
footprint SOT23-5N(MO-178)
pins: 1 IN (power), 2 GND (power), 3 EN, 4 nc, 5 OUT (power)

## U_LP5907MFX-1.8
designator U?, comment LP5907MFX-1.8/NOPB
IC REG LINEAR 1.8V 250MA SOT23; Manufacturer: Texas Instruments; ManufacturerPartNumber: LP5907MFX-1.8/NOPB; Value: LP5907MFX-1.8/NOPB; Technology: SMT; Supplier 1: Digi-Key; Supplier Part Number 1: 296-41463-1-ND
footprint SOT23-5N(MO-178)
pins: 1 IN (power), 2 GND (power), 3 EN, 4 nc, 5 OUT (power)

## U_LP5907MFX-2.5
designator U?, comment LP5907MFX-2.5/NOPB
IC REG LINEAR 2.5V 250MA SOT23; Manufacturer: Texas Instruments; ManufacturerPartNumber: LP5907MFX-2.5/NOPB; Technology: SMT; Supplier 1: Digi-Key; Supplier Part Number 1: 296-40356-1-ND
footprint SOT23-5N(MO-178)
pins: 1 IN (power), 2 GND (power), 3 EN, 4 nc, 5 OUT (power)

## U_LP5907MFX-2.8
designator U?, comment LP5907MFX-2.8/NOPB
IC REG LINEAR 2.8V 250MA SOT23; Manufacturer: Texas Instruments; ManufacturerPartNumber: LP5907MFX-2.8/NOPB; Value: LP5907MFX-2.8/NOPB; Technology: SMT; Supplier 1: Digi-Key; Supplier Part Number 1: 296-39063-1-ND
footprint SOT23-5N(MO-178)
pins: 1 IN (power), 2 GND (power), 3 EN, 4 nc, 5 OUT (power)

## U_LT1534
designator U?, comment LT1534CS#PBF
Ultralow Noise 2A Switching Regulator; Manufacturer: Linear Tech; ManufacturerPartNumber: LT1534CS#PBF; Supplier 1: Digi-Key; Supplier Part Number 1: LT1534CS#PBF-ND; Technology: SMT
footprint U_SOIC127P600-16N(MS-012)
pins: 1 NC, 2 COL (power) "These two pins should be connected together externally to create the collector of the power switch. The emitter returns to PGND through a sense resistor. Large currents flow into these pins so it is desirable to keep (See Datasheet)", 3 NC, 4 SYNC (in) "The SYNC pin can be used to synchronize the oscillator to an external clock (see Oscillator Sync inApplications Information section for more details). The SYNC pin may either be floated or tied to ground if not used.", 5 CT "The oscillator capacitor pin is used in conjunction with RT to set the oscillator frequency. For RT = 16.9k,", 6 RT "The oscillator resistor pin is used to set the charge and discharge currents of the oscillator capacitor. The nominal value is 16.9k. It is possible to adjust this resistance +/-25% to get a more accurate oscillator (See Datasheet)", 7 FB (in) "The feedback pin is used for positive voltage sensing and oscillator frequency shifting during start-up and short-circuit conditions. It is the inverting input to the error amplifier. The noninverting input of this amplifier (See Datasheet)", 8 NFB (in) "The negative voltage feedback pin is used for sensing a negative output voltage. The pin is connected to the inverting input of the negative feedback amplifier through a 100k source resistor. The negative feedback amplifier (See Datasheet)", 9 GND (power) "Signal Ground. The internal error amplifier, negative feedback amplifier, oscillator, slew control circuitry and the bandgap reference are referred to this ground. Keep the connection to the feedback divider and VC (See Datasheet)", 10 VC "The compensation pin is used for frequency compensation and current limiting. It is the output of the error amplifier and the input of the current comparator. Loop frequency compensation can be performed with an RC network (See Datasheet)", 11 ~{SHDN} (in) "The shutdown pin is used for disabling the switcher. Grounding this pin will disable all internal circuitry. Normally this output can be tied high (to VIN) or may be left floating.", 12 RCSL (in) "A resistor to ground sets the current slew rate for the power switch. The minimum resistor value is 3.9k and the maximum value is 68k. Current slew will be approximately", 13 RVSL (in) "A resistor to ground sets the voltage slew rate for the power switch collector. The minimum resistor value is 3.9k and the maximum value is 68k. Voltage slew will be approximately", 14 VIN (power) "Input Supply Pin. Bypass this pin with a>=4.7uF low ESR capacitor. When VIN is below 2.55V the part will go into undervoltage lockout where it will stop output switching and pull the VC pin low.", 15 COL (power) "These two pins should be connected together externally to create the collector of the power switch. The emitter returns to PGND through a sense resistor. Large currents flow into these pins so it is desirable to keep (See Datasheet)", 16 PGND (power) "Power Switch Ground. This ground comes from the emitters of the power switches. In normal operation this pin should have approximately 25nH inductance to ground. This can be done by trace inductance (approximately 1") or (See Datasheet)"

## U_LTC2268_12b
designator U?, comment LTC2268CUJ-12#PBF
ADC 12bit 125MSPS, Dual, LVDS; Manufacturer: Linear Tech; ManufacturerPartNumber: LTC2268CUJ-12#PBF; Technology: SMT
footprint U_QFN50P600X600X90-40N (QFN, 40-Leads, Body 6x6mm, Pitch 0.5mm, Thermal Pad 4.3x4.3mm, IPC Medium Density)
pins: 1 Ain1+ (in), 2 Ain1- (in), 3 Vcm1, 4 REFH, 5 REFH, 6 REFL, 7 REFL, 8 Vcm2, 9 Ain2+ (in), 10 Ain2- (in), 11 VDD (power), 12 VDD (power), 13 ENC+ (in), 14 ENC- (in), 15 ~{CS} (in), 16 SCK (in), 17 SDI (in), 18 GND (power), 19 OUT2B- (out), 20 OUT2B+ (out), 21 OUT2A- (out), 22 OUT2A+ (out), 23 FR- (out), 24 FR+ (out), 25 OGND (power), 26 OVDD (power), 27 DCO- (out), 28 DCO+ (out), 29 OUT1B- (out), 30 OUT1B+ (out), 31 OUT1A- (out), 32 OUT1A+ (out), 33 GND (power), 34 SDO (out), 35 PAR/~{SER}, 36 Vref, 37 GND (power), 38 SENSE, 39 VDD (power), 40 VDD (power), 41 TGND (power)

## U_LTC2632
designator U?, comment LTC2632ACTS8-LZ12#TRMPBF
DAC SPI Dual 8-12bits; Manufacturer: Linear Tech; ManufacturerPartNumber: LTC2632ACTS8-LZ12#TRMPBF; Supplier 1: Digi-Key; Supplier Part Number 1: LTC2632ACTS8-LZ12#TRMPBFCT-ND; Technology: SMT
footprint SOT23-8N (TSOP, 8-Leads, Body 2.90x1.63mm, Pitch 0.65mm, IPC Medium Density)
pins: 1 SCK (in), 2 ~{CS}/LD (in), 3 REF, 4 GND (power), 5 VoutA (out), 6 VoutB (out), 7 VCC (power), 8 SDI (in)

## U_MAX1748
designator U?, comment MAX1748EUE
Triple-Output TFT-LCD DC-DC Converters; Manufacturer: Maxim; ManufacturerPartNumber: MAX1748EUE; Technology: SMT; Supplier 1: Digi-Key; Supplier Part Number 1: MAX1748EUE+CT-ND
footprint U_TSOP65P640-16N(MO-153)
pins: 1 ~{RDY} (oc), 2 FB, 3 INTG (out), 4 IN (power), 5 GND (power), 6 REF, 7 FBP, 8 FBN, 9 ~{SHDN} (in), 10 DRVN, 11 SUPN, 12 DRVP, 13 SUPP, 14 PGND (power), 15 LX, 16 TGND (power)

## U_MAX14770
designator U?, comment MAX14770EESA+T
RS-485 Transceiver Profibus 35kV High-ESD; Manufacturer: Maxim; ManufacturerPartNumber: MAX14770EESA+T; Technology: SMT; Supplier 1: Digi-Key; Supplier Part Number 1: MAX14770EESA+-ND
footprint U_SOIC127P600-8N(MS-012)
pins: 1 RO (out), 2 ~{RE} (in), 3 DE (in), 4 DI (in), 5 GND (power), 6 DO/RI (io), 7 ~{DO}/~{RI} (io), 8 VCC (power)

## U_MCP4725
designator U?, comment MCP4725A0T-E/CH
12-Bit Voltage Output Digital-to-Analog Converter with EEPROM and I2C Interface; Manufacturer: Microchip; ManufacturerPartNumber: MCP4725A0T-E/CH; Value: MCP4725; Technology: SMT; Supplier 1: Digi-Key; Supplier Part Number 1: MCP4725A0T-E/CHCT-ND
footprint SOT23-6N(MO-178)
pins: 1 VOUT (out), 2 GND (power), 3 VDD (power), 4 SDA (io), 5 SCLK (in), 6 A0

## U_MCP4728
designator U?, comment MCP4728T-E/UN
Quad 12-Bit Voltage Output Digital-to-Analog Converter with EEPROM and I2C Interface; Manufacturer: Microchip; ManufacturerPartNumber: MCP4728T-E/UN; Value: MCP4728; Technology: SMT; Supplier 1: Digi-Key; Supplier Part Number 1: MCP4728T-E/UNCT-ND
footprint U_MSOP50P300X500-10(RM-10)_WO-TP (Shrink Small Outline; 10 Leads; Body Width 3 mm; Pitch 0.5 mm)
pins: 1 VDD (power), 2 SCL (in), 3 SDA (io), 4 ~{LDAC} (in), 5 RDY/~{BSY} (oc), 6 VOUTA (out), 7 VOUTB (out), 8 VOUTC (out), 9 VOUTD (out), 10 VSS (power)

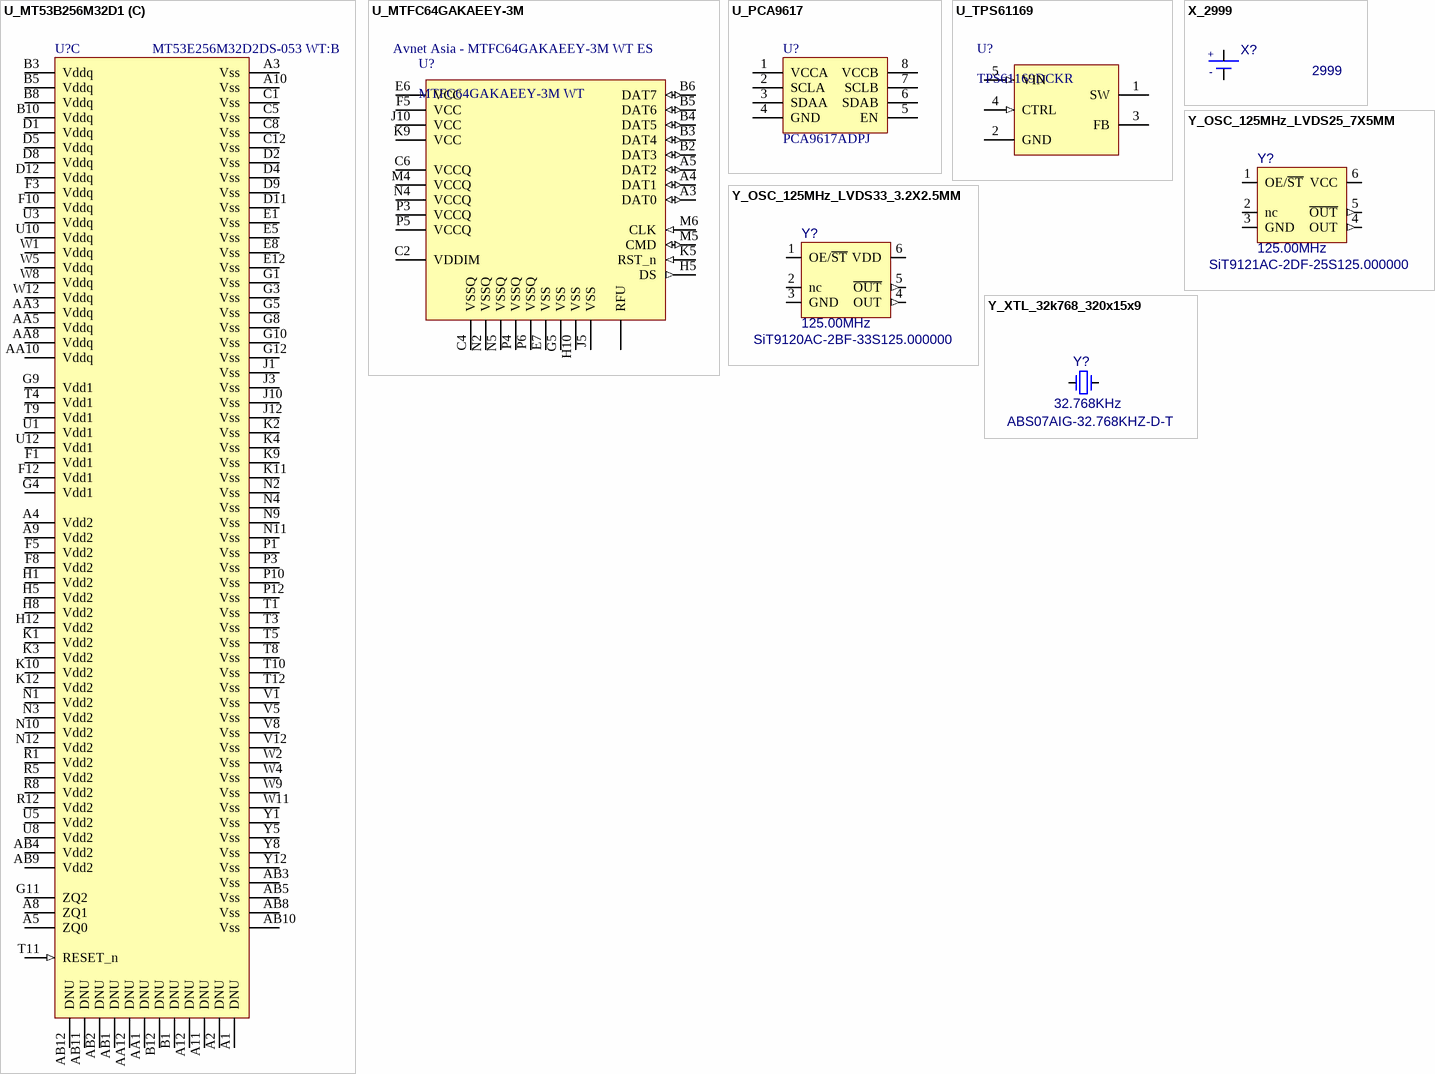
[diagram p3: symbols U_MT53B256M32D1 to Y_XTL_32k768_320x15x9]

## U_MT53B256M32D1
designator U?, comment MT53E256M32D2DS-053 WT:B
LPDDR4 SDRAM 8Gb SDP; Manufacturer: Micron; ManufacturerPartNumber: MT53E256M32D2DS-053 WT:B; Supplier 1: Avnet; Supplier Part Number 1: MT53B256M32D1NP-062 WT:C; Technology: SMT
footprint U_BGA80X65P100X145-200 (200-Ball WFBGA -pitch 0.8x0.65mm – 10mm x 14.5mm (Micron package code NP))
part A pins: B2 DQ0_A (io) "Data IO", B4 DQ7_A (io) "Data IO", B9 DQ15_A (io) "Data IO", B11 DQ8_A (io) "Data IO", C2 DQ1_A (io) "Data IO", C3 DMI0_A (io) "Data Mask/Data Bus Inversion", C4 DQ6_A (io) "Data IO", C9 DQ14_A (io) "Data IO", C10 DMI1_A (io) "Data Mask/Data Bus Inversion", C11 DQ9_A (io) "Data IO", D3 DQS0_t_A (io) "Data Strobe", D10 DQS1_t_A (io) "Data Strobe", E2 DQ2_A (io) "Data IO", E3 DQS0_c_A (io) "Data Strobe", E4 DQ5_A (io) "Data IO", E9 DQ13_A (io) "Data IO", E10 DQS1_c_A (io) "Data Strobe", E11 DQ10_A (io) "Data IO", F2 DQ3_A (io) "Data IO", F4 DQ4_A (io) "Data IO", F9 DQ12_A (io) "Data IO", F11 DQ11_A (io) "Data IO", G2 ODT_CA_A (in) "CA ODT Control", H2 CA0_A (in) "Command/Address", H3 CS1_A (in) "Chip Select", H4 CS0_A (in) "Chip Select", H9 CA2_A (in) "Command/Address", H10 CA3_A (in) "Command/Address", H11 CA4_A (in) "Command/Address", J2 CA1_A (in) "Command/Address", J4 CKE0_A (in) "Clock Enable", J5 CKE1_A (in) "Clock Enable", J8 CK_t_A (in) "Clock", J9 CK_c_A (in) "Clock", J11 CA5_A (in) "Command/Address", K5 CS2_A (in) "Chip Select", K8 CKE2_A (in) "Clock Enable"
part B pins: AA2 DQ0_B (io) "Data IO", AA4 DQ7_B (io) "Data IO", AA9 DQ15_B (io) "Data IO", AA11 DQ8_B (io) "Data IO", N5 CS2_B (in) "Chip Select", N8 CKE2_B (in) "Clock Enable", P2 CA1_B (in) "Command/Address", P4 CKE0_B (in) "Clock Enable", P5 CKE1_B (in) "Clock Enable", P8 CK_t_B (in) "Clock", P9 CK_c_B (in) "Clock", P11 CA5_B (in) "Command/Address", R2 CA0_B (in) "Command/Address", R3 CS1_B (in) "Chip Select", R4 CS0_B (in) "Chip Select", R9 CA2_B (in) "Command/Address", R10 CA3_B (in) "Command/Address", R11 CA4_B (in) "Command/Address", T2 ODT_CA_B (in) "CA ODT Control", U2 DQ3_B (io) "Data IO", U4 DQ4_B (io) "Data IO", U9 DQ12_B (io) "Data IO", U11 DQ11_B (io) "Data IO", V2 DQ2_B (io) "Data IO", V3 DQS0_c_B (io) "Data Strobe", V4 DQ5_B (io) "Data IO", V9 DQ13_B (io) "Data IO", V10 DQS1_c_B (io) "Data Strobe", V11 DQ10_B (io) "Data IO", W3 DQS0_t_B (io) "Data Strobe", W10 DQS1_t_B (io) "Data Strobe", Y2 DQ1_B (io) "Data IO", Y3 DMI0_B (io) "Data Mask/Data Bus Inversion", Y4 DQ6_B (io) "Data IO", Y9 DQ14_B (io) "Data IO", Y10 DMI1_B (io) "Data Mask/Data Bus Inversion", Y11 DQ9_B (io) "Data IO"
part C pins: A1 DNU "must be grounded or left floating", A2 DNU "must be grounded or left floating", A3 Vss (power), A4 Vdd2 (power), A5 ZQ0, A8 ZQ1, A9 Vdd2 (power), A10 Vss (power), A11 DNU "must be grounded or left floating", A12 DNU "must be grounded or left floating", AA1 DNU "must be grounded or left floating", AA3 Vddq (power), AA5 Vddq (power), AA8 Vddq (power), AA10 Vddq (power), AA12 DNU "must be grounded or left floating", AB1 DNU "must be grounded or left floating", AB2 DNU "must be grounded or left floating", AB3 Vss (power), AB4 Vdd2 (power), AB5 Vss (power), AB8 Vss (power), AB9 Vdd2 (power), AB10 Vss (power), AB11 DNU "must be grounded or left floating", AB12 DNU "must be grounded or left floating", B1 DNU "must be grounded or left floating", B3 Vddq (power), B5 Vddq (power), B8 Vddq (power), B10 Vddq (power), B12 DNU "must be grounded or left floating", C1 Vss (power), C5 Vss (power), C8 Vss (power), C12 Vss (power), D1 Vddq (power), D2 Vss (power), D4 Vss (power), D5 Vddq (power), D8 Vddq (power), D9 Vss (power), D11 Vss (power), D12 Vddq (power), E1 Vss (power), E5 Vss (power), E8 Vss (power), E12 Vss (power), F1 Vdd1 (power), F3 Vddq (power), F5 Vdd2 (power), F8 Vdd2 (power), F10 Vddq (power), F12 Vdd1 (power), G1 Vss (power), G3 Vss (power), G4 Vdd1 (power), G5 Vss (power), G8 Vss (power), G9 Vdd1 (power), G10 Vss (power), G11 ZQ2, G12 Vss (power), H1 Vdd2 (power), H5 Vdd2 (power), H8 Vdd2 (power), H12 Vdd2 (power), J1 Vss (power), J3 Vss (power), J10 Vss (power), J12 Vss (power), K1 Vdd2 (power), K2 Vss (power), K3 Vdd2 (power), K4 Vss (power), K9 Vss (power), K10 Vdd2 (power), K11 Vss (power), K12 Vdd2 (power), N1 Vdd2 (power), N2 Vss (power), N3 Vdd2 (power), N4 Vss (power), N9 Vss (power), N10 Vdd2 (power), N11 Vss (power), N12 Vdd2 (power), P1 Vss (power), P3 Vss (power), P10 Vss (power), P12 Vss (power), R1 Vdd2 (power), R5 Vdd2 (power), R8 Vdd2 (power), R12 Vdd2 (power), T1 Vss (power), T3 Vss (power), T4 Vdd1 (power), T5 Vss (power), T8 Vss (power), T9 Vdd1 (power), T10 Vss (power), T11 RESET_n (in), T12 Vss (power), U1 Vdd1 (power), U3 Vddq (power), U5 Vdd2 (power), U8 Vdd2 (power), U10 Vddq (power), U12 Vdd1 (power), V1 Vss (power), V5 Vss (power), V8 Vss (power), V12 Vss (power), W1 Vddq (power), W2 Vss (power), W4 Vss (power), W5 Vddq (power), W8 Vddq (power), W9 Vss (power), W11 Vss (power), W12 Vddq (power), Y1 Vss (power), Y5 Vss (power), Y8 Vss (power), Y12 Vss (power)

## U_MTFC64GAKAEEY-3M
designator U?, comment MTFC64GAKAEEY-3M WT  Supplier Part Number 1: Avnet Asia - MTFC64GAKAEEY-3M WT ES
e.MMC Memory 64GB; Manufacturer: Micron; ManufacturerPartNumber: MTFC64GAKAEEY-3M WT; Supplier 1: Octopart; Technology: SMT
footprint U_BGA50P115x130x10-153 (153-ball VGBGA 11.5mm x 13mm x 1mm (Micron Package code CN))
pins: A3 DAT0 (io), A4 DAT1 (io), A5 DAT2 (io), A7 RFU, AA7 RFU hidden, AA10 RFU hidden, B2 DAT3 (io), B3 DAT4 (io), B4 DAT5 (io), B5 DAT6 (io), B6 DAT7 (io), C2 VDDIM, C4 VSSQ (power), C6 VCCQ (power), E5 RFU, E6 VCC (power), E7 VSS (power), E8 RFU, E9 RFU, E10 RFU, F5 VCC (power), F10 RFU, G5 VSS (power), G10 RFU, H5 DS (out), H6 RFU hidden, H7 RFU hidden, H10 VSS (power), J5 VSS (power), J10 VCC (power), K5 RFU hidden, K5 RST_n (in), K6 RFU, K7 RFU, K9 VCC (power), K10 RFU, M4 VCCQ (power), M5 CMD (io), M6 CLK (in), M8 RFU hidden, M9 RFU hidden, M10 RFU hidden, N2 VSSQ (power), N4 VCCQ (power), N5 VSSQ (power), N10 RFU hidden, P3 VCCQ (power), P4 VSSQ (power), P5 VCCQ (power), P6 VSSQ (power), P10 RFU hidden, R5 RFU hidden, T5 RFU hidden, U6 RFU hidden, U7 RFU hidden, U10 RFU hidden

## U_PCA9617
designator U?, comment PCA9617ADPJ
Level translating Fm+ I2C-bus repeater; Manufacturer: NXP; ManufacturerPartNumber: PCA9617ADPJ; Supplier 1: Digi-Key; Supplier Part Number 1: 568-10211-1-ND; Technology: SMT
footprint U_TSSOP65P300X300-8N(SOT505-1)
pins: 1 VCCA (power), 2 SCLA, 3 SDAA, 4 GND (power), 5 EN, 6 SDAB, 7 SCLB, 8 VCCB (power)

## U_TPS61169
designator U?, comment TPS61169DCKR
High current-Boost White LED Driver with PWM control; Manufacturer: Texas Instruments; ManufacturerPartNumber: TPS61169DCKR; Supplier 1: Digi-Key; Supplier Part Number 1: 296-40821-1-ND; Technology: SMT
footprint SOT353-5N(MO-203)SC-70
pins: 1 SW, 2 GND (power), 3 FB, 4 CTRL (in), 5 VIN (in)

## X_2999
designator X?, comment 2999
Holder Coin Cell 377 6.8mm SMT; Manufacturer: Keystone Electronics Corp.; Value: 377-376TZ; ManufacturerPartNumber: 2999; Technology: TH; Supplier 1: Newark; Supplier Part Number 1: 95M2127
footprint X_2999 (Holder Coin Cell 6.8mm TH)
pins: 1 + "Positive Battery Tab", 2 - "Negative Battery Tab", 3 + "Positive Battery Tab"

## Y_OSC_125MHz_LVDS25_7X5MM
designator Y?, comment SiT9121AC-2DF-25S125.000000  value 125.00MHz
OSC 125MHZ 10ppm, LVDS 2.5V, 7x5mm, -20 to 70C; Manufacturer: SiTime; ManufacturerPartNumber: SiT9121AC-2DF-25S125.000000; Technology: SMT
footprint Y_254P700X500-6N (CRYSTAL OSCILLATOR 2.54mm pitch, 5x7mm 6pins)
pins: 1 OE/~{ST}, 2 nc, 3 GND (power), 4 OUT (out), 5 ~{OUT} (out), 6 VCC (power)

## Y_OSC_125MHz_LVDS33_3.2X2.5MM
designator Y?, comment SiT9120AC-2BF-33S125.000000  value 125.00MHz
OSC 125MHZ 10ppm, LVDS 3.3V, 3.2x2.5mm, -20 to 70C; Manufacturer: SiTime; ManufacturerPartNumber: SiT9120AC-2BF-33S125.000000; Technology: SMT
footprint Y_SM3225-6(DFN6)
pins: 1 OE/~{ST}, 2 nc, 3 GND (power), 4 OUT (out), 5 ~{OUT} (out), 6 VDD (power)

## Y_XTL_32k768_320x15x9
designator Y?, comment ABS07AIG-32.768KHZ-D-T  value 32.768KHz
Crystal 32.768kHz 3.2x1.5x0.9mm; Manufacturer: Abracon; ManufacturerPartNumber: ABS07AIG-32.768KHZ-D-T; Technology: SMT; Supplier 1: Digi-Key; Supplier Part Number 1: 535-13356-1-ND
footprint Y_ABS07AIG (Crystal 3.2x1.5x0.9mm)
pins: 1, 2